# Altium schematic symbol library fiber-optic-siemens.SCHLIB: 4 symbols
Pins are listed as number, name and electrical type; pins without a type are passive.

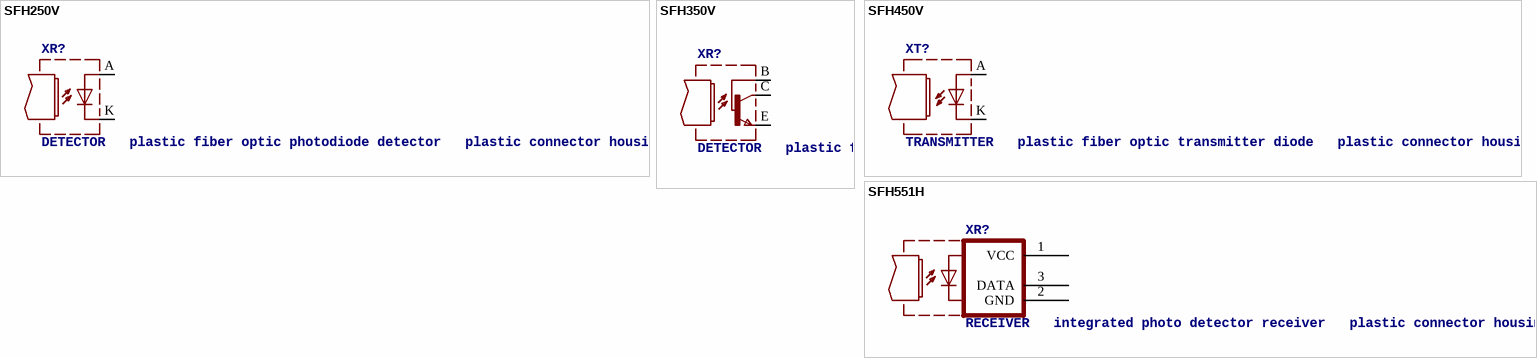
[diagram p0: symbols SFH250V to SFH551H]

## SFH250V
designator XR?, comment DETECTOR   plastic fiber optic photodiode detector   plastic connector housing
MPN: SP000063852; OC_FARNELL: 1219692; OC_NEWARK: 54M6076
footprint SFH-V
pins: A, K C

## SFH350V
designator XR?, comment DETECTOR   plastic fiber optic phototransistor detector   plastic connector housing
MPN: SP000063853; OC_FARNELL: 1219693; OC_NEWARK: 54M6077
footprint SFH-V1
pins: B, C, E

## SFH450V
designator XT?, comment TRANSMITTER   plastic fiber optic transmitter diode   plastic connector housing
OC_FARNELL: unknown; OC_NEWARK: unknown
footprint SFH-V
pins: A, K C

## SFH551H
designator XR?, comment RECEIVER   integrated photo detector receiver   plastic connector housing
OC_FARNELL: unknown; OC_NEWARK: unknown
footprint SFH-V2
pins: 1 VCC (power), 2 GND (power), 3 DATA